# Altium footprint library mina.PcbLib: 3 footprints
Each footprint in its own frame and in the unit in brackets; x right, y up, seen from the top. Pads: shape width x height; smd on the part's side, far side on the other; paste and mask are expansions set on the pad; w line width, h text height; cw(c..) or ccw(c..) is an arc to the next point about the centre after c.
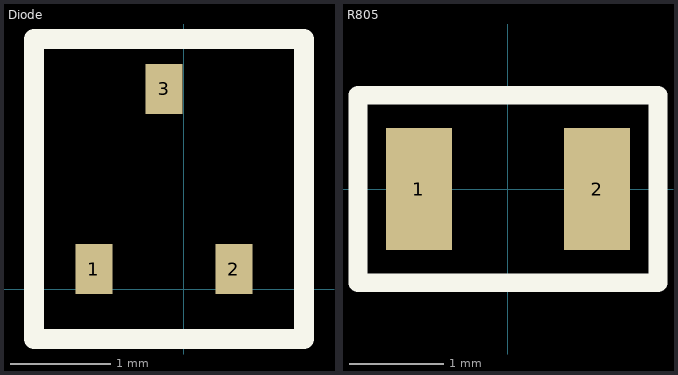
[diagram p0: the footprints below, top view; thin cyan lines are the x and y axes]

## Diode [mm]
pads (3):
  rect 0.37x0.5 smd: 1(-0.9,0.2) 2(0.5,0.2) 3(-0.2,2)
Top Overlay:
  lines w0.2: -1.5,-0.5 -1.5,0.735 -1.5,2.5 1.2,2.5 1.2,-0.5 -1.5,-0.5
3D body "2sa1612-t1-a.stp": height 0.95, standoff 0, extent -1.2,0.05 0.8,2.15

## PCBComponent_1 [mm]

## R805 [mm]
pads (2):
  rect 0.7x1.3 smd: 1(-0.95,0) 2(0.95,0)
Top Overlay:
  lines w0.2: -1.6,-1 1.6,-1 1.6,1 -1.6,1 -1.6,-1
3D body "User Library-CR2012-0805.step": height 0.61, standoff 0.01, extent -1,-0.625 1,0.625